# Altium footprint library FP-Connector.PcbLib: 32 footprints (part 2 of 2)
Each footprint in its own frame and in the unit in brackets; x right, y up, seen from the top. Pads: shape width x height; smd on the part's side, far side on the other; paste and mask are expansions set on the pad; w line width, h text height; cw(c..) or ccw(c..) is an arc to the next point about the centre after c.
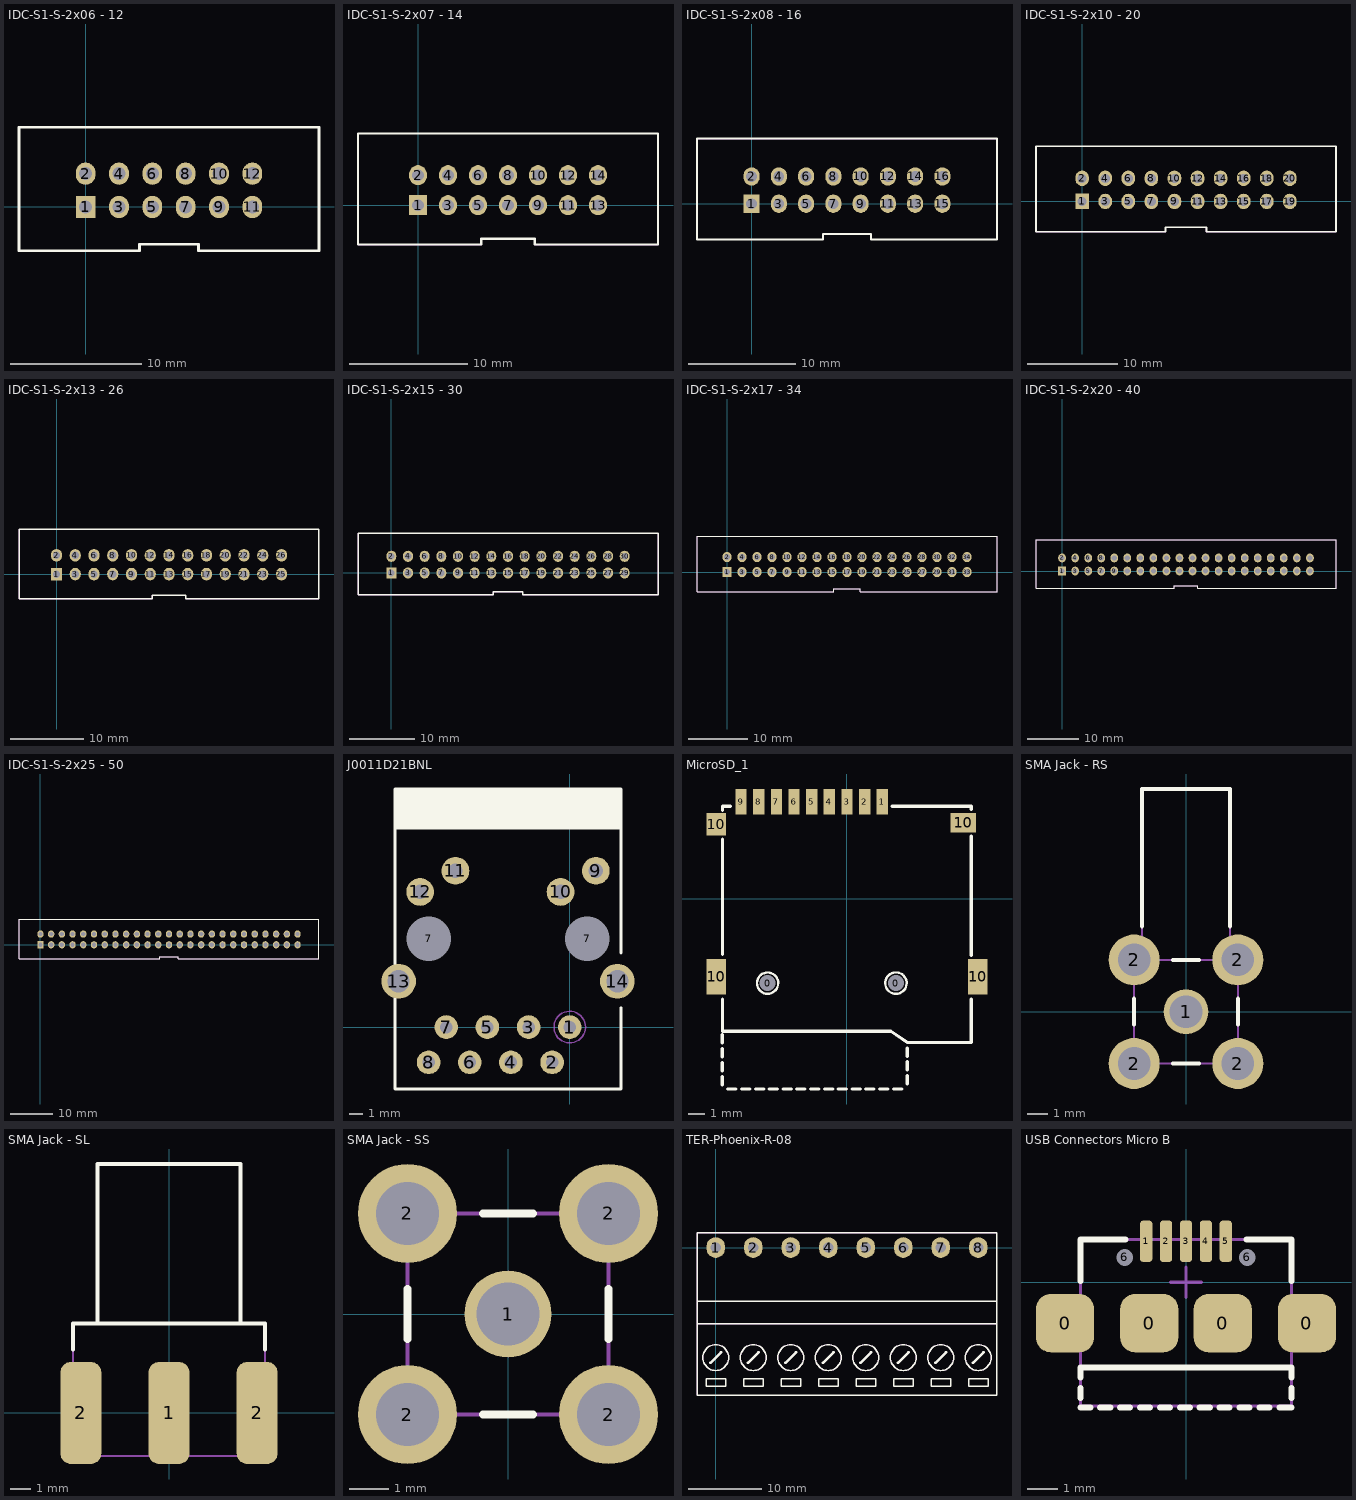
[diagram p1: the footprints below, top view; thin cyan lines are the x and y axes]

## IDC-S1-S-2x06 - 12 [mm]
pads (12):
  rect 1.5x1.7 hole 1: 1(0,0)
  oval 1.5x1.7 hole 1: 2(0,2.54) 3(2.54,0) 4(2.54,2.54) 5(5.08,0) 6(5.08,2.54) 7(7.62,0) 8(7.62,2.54) 9(10.16,0) 10(10.16,2.54) 11(12.7,0) 12(12.7,2.54)
Top Overlay:
  lines w0.2: -5.08,-3.33 4.1,-3.33 4.1,-2.83 8.6,-2.83 8.6,-3.33 17.78,-3.33 17.78,6.07 -5.08,6.07 -5.08,-3.33
Top Assembly:
  lines w0.1: -5.08,-3.33 4.1,-3.33 4.1,-2.83 8.6,-2.83 8.6,-3.33 17.78,-3.33 17.78,6.07 -5.08,6.07 -5.08,-3.33
  text "'.Designator'" at 0.254,0.762 h1.52
Top Courtyard:
  lines w0.1: -0.5,0 0.5,0 ; 0,-0.5 0,0.5

## IDC-S1-S-2x07 - 14 [mm]
pads (14):
  rect 1.5x1.7 hole 1: 1(0,0)
  oval 1.5x1.7 hole 1: 2(0,2.54) 3(2.54,0) 4(2.54,2.54) 5(5.08,0) 6(5.08,2.54) 7(7.62,0) 8(7.62,2.54) 9(10.16,0) 10(10.16,2.54) 11(12.7,0) 12(12.7,2.54) 13(15.24,0) 14(15.24,2.54)
Top Overlay:
  lines w0.2: -5.08,-3.33 -5.08,6.07 20.32,6.07 20.32,-3.33 9.87,-3.33 9.87,-2.83 5.37,-2.83 5.37,-3.33 -5.08,-3.33
Top Assembly:
  lines w0.1: -5.08,-3.33 -5.08,6.07 20.32,6.07 20.32,-3.33 9.87,-3.33 9.87,-2.83 5.37,-2.83 5.37,-3.33 -5.08,-3.33
  text "'.Designator'" at 0.254,0.762 h1.52
Top Courtyard:
  lines w0.1: -0.5,0 0.5,0 ; 0,-0.5 0,0.5

## IDC-S1-S-2x08 - 16 [mm]
pads (16):
  rect 1.5x1.7 hole 1: 1(0,0)
  oval 1.5x1.7 hole 1: 2(0,2.54) 3(2.54,0) 4(2.54,2.54) 5(5.08,0) 6(5.08,2.54) 7(7.62,0) 8(7.62,2.54) 9(10.16,0) 10(10.16,2.54) 11(12.7,0) 12(12.7,2.54) 13(15.24,0) 14(15.24,2.54) 15(17.78,0) 16(17.78,2.54)
Top Overlay:
  lines w0.2: -5.08,-3.33 -5.08,6.07 22.86,6.07 22.86,-3.33 11.14,-3.33 11.14,-2.83 6.64,-2.83 6.64,-3.33 -5.08,-3.33
Top Assembly:
  lines w0.1: -5.08,-3.33 -5.08,6.07 22.86,6.07 22.86,-3.33 11.14,-3.33 11.14,-2.83 6.64,-2.83 6.64,-3.33 -5.08,-3.33
  text "'.Designator'" at 0.254,0.762 h1.52
Top Courtyard:
  lines w0.1: -0.5,0 0.5,0 ; 0,-0.5 0,0.5

## IDC-S1-S-2x10 - 20 [mm]
pads (20):
  rect 1.5x1.7 hole 1: 1(0,0)
  oval 1.5x1.7 hole 1: 2(0,2.54) 3(2.54,0) 4(2.54,2.54) 5(5.08,0) 6(5.08,2.54) 7(7.62,0) 8(7.62,2.54) 9(10.16,0) 10(10.16,2.54) 11(12.7,0) 12(12.7,2.54) 13(15.24,0) 14(15.24,2.54) 15(17.78,0) 16(17.78,2.54) 17(20.32,0) 18(20.32,2.54) 19(22.86,0) 20(22.86,2.54)
Top Overlay:
  lines w0.2: -5.08,-3.33 9.18,-3.33 9.18,-2.83 13.68,-2.83 13.68,-3.33 27.94,-3.33 27.94,6.07 -5.08,6.07 -5.08,-3.33
Top Assembly:
  lines w0.1: -5.08,-3.33 9.18,-3.33 9.18,-2.83 13.68,-2.83 13.68,-3.33 27.94,-3.33 27.94,6.07 -5.08,6.07 -5.08,-3.33
  text "'.Designator'" at 0.254,0.762 h1.52
Top Courtyard:
  lines w0.1: -0.5,0 0.5,0 ; 0,-0.5 0,0.5
3D body "DS1013-20S (IDC-20MS CONNFLY).stp": height 9.05, standoff -3.55, extent -5.17,-3.08 28.03,5.82

## IDC-S1-S-2x13 - 26 [mm]
pads (26):
  rect 1.5x1.7 hole 1: 1(0,0)
  oval 1.5x1.7 hole 1: 2(0,2.54) 3(2.54,0) 4(2.54,2.54) 5(5.08,0) 6(5.08,2.54) 7(7.62,0) 8(7.62,2.54) 9(10.16,0) 10(10.16,2.54) 11(12.7,0) 12(12.7,2.54) 13(15.24,0) 14(15.24,2.54) 15(17.78,0) 16(17.78,2.54) 17(20.32,0) 18(20.32,2.54) 19(22.86,0) 20(22.86,2.54) 21(25.4,0) 22(25.4,2.54) 23(27.94,0) 24(27.94,2.54) 25(30.48,0) 26(30.48,2.54)
Top Overlay:
  lines w0.2: -5.08,-3.33 -5.08,6.07 35.56,6.07 35.56,-3.33 17.49,-3.33 17.49,-2.83 12.99,-2.83 12.99,-3.33 -5.08,-3.33
Top Assembly:
  lines w0.1: -5.08,-3.33 -5.08,6.07 35.56,6.07 35.56,-3.33 17.49,-3.33 17.49,-2.83 12.99,-2.83 12.99,-3.33 -5.08,-3.33
  text "'.Designator'" at 0.254,0.762 h1.52
Top Courtyard:
  lines w0.1: -0.5,0 0.5,0 ; 0,-0.5 0,0.5

## IDC-S1-S-2x15 - 30 [mm]
pads (30):
  rect 1.5x1.7 hole 1: 1(0,0)
  oval 1.5x1.7 hole 1: 2(0,2.54) 3(2.54,0) 4(2.54,2.54) 5(5.08,0) 6(5.08,2.54) 7(7.62,0) 8(7.62,2.54) 9(10.16,0) 10(10.16,2.54) 11(12.7,0) 12(12.7,2.54) 13(15.24,0) 14(15.24,2.54) 15(17.78,0) 16(17.78,2.54) 17(20.32,0) 18(20.32,2.54) 19(22.86,0) 20(22.86,2.54) 21(25.4,0) 22(25.4,2.54) 23(27.94,0) 24(27.94,2.54) 25(30.48,0) 26(30.48,2.54) 27(33.02,0) 28(33.02,2.54) 29(35.56,0) 30(35.56,2.54)
Top Overlay:
  lines w0.2: -5.08,-3.33 -5.08,6.07 40.64,6.07 40.64,-3.33 20.03,-3.33 20.03,-2.83 15.53,-2.83 15.53,-3.33 -5.08,-3.33
Top Assembly:
  lines w0.1: -5.08,-3.33 -5.08,6.07 40.64,6.07 40.64,-3.33 20.03,-3.33 20.03,-2.83 15.53,-2.83 15.53,-3.33 -5.08,-3.33
  text "'.Designator'" at 0.254,0.762 h1.52
Top Courtyard:
  lines w0.1: -0.5,0 0.5,0 ; 0,-0.5 0,0.5

## IDC-S1-S-2x17 - 34 [mm]
pads (34):
  rect 1.5x1.7 hole 1: 1(0,0)
  oval 1.5x1.7 hole 1: 2(0,2.54) 3(2.54,0) 4(2.54,2.54) 5(5.08,0) 6(5.08,2.54) 7(7.62,0) 8(7.62,2.54) 9(10.16,0) 10(10.16,2.54) 11(12.7,0) 12(12.7,2.54) 13(15.24,0) 14(15.24,2.54) 15(17.78,0) 16(17.78,2.54) 17(20.32,0) 18(20.32,2.54) 19(22.86,0) 20(22.86,2.54) 21(25.4,0) 22(25.4,2.54) 23(27.94,0) 24(27.94,2.54) 25(30.48,0) 26(30.48,2.54) 27(33.02,0) 28(33.02,2.54) 29(35.56,0) 30(35.56,2.54) 31(38.1,0) 32(38.1,2.54) 33(40.64,0) 34(40.64,2.54)
Top Overlay:
  lines w0.2: -5.08,-3.33 18.07,-3.33 18.07,-2.83 22.57,-2.83 22.57,-3.33 45.72,-3.33 45.72,6.07 -5.08,6.07 -5.08,-3.33
Top Assembly:
  lines w0.1: -5.08,-3.33 18.07,-3.33 18.07,-2.83 22.57,-2.83 22.57,-3.33 45.72,-3.33 45.72,6.07 -5.08,6.07 -5.08,-3.33
  text "'.Designator'" at 0.254,0.762 h1.52
Top Courtyard:
  lines w0.1: -0.5,0 0.5,0 ; 0,-0.5 0,0.5

## IDC-S1-S-2x20 - 40 [mm]
pads (40):
  rect 1.5x1.7 hole 1: 1(0,0)
  oval 1.5x1.7 hole 1: 2(0,2.54) 3(2.54,0) 4(2.54,2.54) 5(5.08,0) 6(5.08,2.54) 7(7.62,0) 8(7.62,2.54) 9(10.16,0) 10(10.16,2.54) 11(12.7,0) 12(12.7,2.54) 13(15.24,0) 14(15.24,2.54) 15(17.78,0) 16(17.78,2.54) 17(20.32,0) 18(20.32,2.54) 19(22.86,0) 20(22.86,2.54) 21(25.4,0) 22(25.4,2.54) 23(27.94,0) 24(27.94,2.54) 25(30.48,0) 26(30.48,2.54) 27(33.02,0) 28(33.02,2.54) 29(35.56,0) 30(35.56,2.54) 31(38.1,0) 32(38.1,2.54) 33(40.64,0) 34(40.64,2.54) 35(43.18,0) 36(43.18,2.54) 37(45.72,0) 38(45.72,2.54) 39(48.26,0) 40(48.26,2.54)
Top Overlay:
  lines w0.2: -5.08,-3.33 21.88,-3.33 21.88,-2.83 26.38,-2.83 26.38,-3.33 53.34,-3.33 53.34,6.07 -5.08,6.07 -5.08,-3.33
Top Assembly:
  lines w0.1: -5.08,-3.33 21.88,-3.33 21.88,-2.83 26.38,-2.83 26.38,-3.33 53.34,-3.33 53.34,6.07 -5.08,6.07 -5.08,-3.33
  text "'.Designator'" at 0.254,0.762 h1.52
Top Courtyard:
  lines w0.1: -0.5,0 0.5,0 ; 0,-0.5 0,0.5

## IDC-S1-S-2x25 - 50 [mm]
pads (50):
  rect 1.5x1.7 hole 1: 1(0,0)
  oval 1.5x1.7 hole 1: 2(0,2.54) 3(2.54,0) 4(2.54,2.54) 5(5.08,0) 6(5.08,2.54) 7(7.62,0) 8(7.62,2.54) 9(10.16,0) 10(10.16,2.54) 11(12.7,0) 12(12.7,2.54) 13(15.24,0) 14(15.24,2.54) 15(17.78,0) 16(17.78,2.54) 17(20.32,0) 18(20.32,2.54) 19(22.86,0) 20(22.86,2.54) 21(25.4,0) 22(25.4,2.54) 23(27.94,0) 24(27.94,2.54) 25(30.48,0) 26(30.48,2.54) 27(33.02,0) 28(33.02,2.54) 29(35.56,0) 30(35.56,2.54) 31(38.1,0) 32(38.1,2.54) 33(40.64,0) 34(40.64,2.54) 35(43.18,0) 36(43.18,2.54) 37(45.72,0) 38(45.72,2.54) 39(48.26,0) 40(48.26,2.54) 41(50.8,0) 42(50.8,2.54) 43(53.34,0) 44(53.34,2.54) 45(55.88,0) 46(55.88,2.54) 47(58.42,0) 48(58.42,2.54) 49(60.96,0) 50(60.96,2.54)
Top Overlay:
  lines w0.2: -5.08,-3.33 28.23,-3.33 28.23,-2.83 32.73,-2.83 32.73,-3.33 66.04,-3.33 66.04,6.07 -5.08,6.07 -5.08,-3.33
Top Assembly:
  lines w0.1: -5.08,-3.33 28.23,-3.33 28.23,-2.83 32.73,-2.83 32.73,-3.33 66.04,-3.33 66.04,6.07 -5.08,6.07 -5.08,-3.33
  text "'.Designator'" at 0.254,0.762 h1.52
Top Courtyard:
  lines w0.1: -0.5,0 0.5,0 ; 0,-0.5 0,0.5

## J0011D21BNL [mm] "Ethernet Connector with EMI Fingers"
height 0.014
pads (16):
  round 1.7 hole 0.9: 1(0,0) 2(-1.27,-2.54) 3(-2.963,0) 4(-4.233,-2.54) 5(-5.927,0) 6(-7.197,-2.54) 7(-8.89,0) 8(-10.16,-2.54)
  rrect50% 2x1 hole 3.2: 7(-10.16,6.35) 7(1.27,6.35)
  round 2 hole 1.05: 9(1.88,11.25) 10(-0.66,9.73) 11(-8.23,11.25) 12(-10.77,9.73)
  round 2.5 hole 1.6: 13(-12.32,3.3) 14(3.43,3.3)
Top Overlay:
  rectangle: -12.575,14.22 3.685,17.14
  lines w0.2: -12.575,1.395 -12.575,-4.46 ; -12.575,5.336 -12.575,17.14 ; 3.685,1.395 3.685,-4.46 -12.575,-4.46 ; 3.685,5.336 3.685,17.14 -12.575,17.14 ; -12.575,-4.46 -12.575,17.14
Top Assembly:
  circle w0.1: c0,0 r1.136
  lines w0.1: -12.575,1.395 -12.575,-4.46 3.685,-4.46 3.685,1.395 ; -12.575,5.336 -12.575,17.14 3.685,17.14 3.685,5.336
  text "'.Designator'" at -7.239,3.683 h1.52
3D body "R80707.stp": height 14.86, standoff -4.25, extent -13.38,-4.904 4.49,17.584

## MicroSD_1 [mm] "altium designer (M.Hariri)"
pads (15):
  round 0.8 hole 1: 0(-4.95,-5.25) 0(3.05,-5.25)
  rect 0.7x1.6 smd: 1(2.2,6.05) 2(1.1,6.05) 3(0,6.05) 4(-1.1,6.05) 5(-2.2,6.05) 6(-3.3,6.05) 7(-4.4,6.05) 8(-5.5,6.05) 9(-6.6,6.05)
  rect 1.2x2.2 smd: 10(-8.15,-4.85) 10(8.15,-4.85)
  rect 1.2x1.4 smd: 10(-8.15,4.65)
  rect 1.6x1.2 smd: 10(7.25,4.75)
Top Overlay:
  lines w0.15: -4.297,-5.141 ccw(c-4.95,-5.25) -4.295,-5.151 ; 3.714,-5.187 ccw(c3.05,-5.25) 3.717,-5.261
  lines w0.2: -7.77,-11.58 -7.77,-11.06 ; -7.77,-10.72 -7.77,-10.2 ; -7.77,-9.86 -7.77,-9.34 ; -7.77,-8.98 -7.77,-8.46 ; -7.76,-6.26 -7.76,-8.25 2.75,-8.25 3.76,-8.95 7.74,-8.95 7.74,-6.25 ; -7.76,-3.45 -7.76,3.72 ; -7.76,5.52 -7.76,5.77 -7.28,5.77 ; -7.43,-11.848 -6.91,-11.848 ; -6.57,-11.848 -6.05,-11.848 ; -5.71,-11.848 -5.19,-11.848 ; -4.85,-11.848 -4.33,-11.848 ; -3.99,-11.848 -3.47,-11.848 ; -3.13,-11.848 -2.61,-11.848 ; -2.27,-11.848 -1.75,-11.848 ; -1.41,-11.848 -0.89,-11.848 ; -0.55,-11.848 -0.03,-11.848 ; 0.31,-11.848 0.83,-11.848 ; 1.17,-11.848 1.69,-11.848 ; 2.03,-11.848 2.55,-11.848 ; 2.82,5.77 7.74,5.77 7.74,5.59 ; 2.89,-11.848 3.41,-11.848 ; 3.76,-11.53 3.76,-11.01 ; 3.76,-10.67 3.76,-10.15 ; 3.76,-9.81 3.76,-9.29 ; 7.74,-3.53 7.74,3.9
Top Assembly:
  lines w0.1: -7.77,-11.58 -7.77,-11.06 ; -7.77,-10.72 -7.77,-10.2 ; -7.77,-9.86 -7.77,-9.34 ; -7.77,-8.98 -7.77,-8.46 ; -7.76,-6.26 -7.76,-8.25 2.75,-8.25 3.76,-8.95 7.74,-8.95 7.74,-6.25 ; -7.76,-3.45 -7.76,3.72 ; -7.76,5.52 -7.76,5.77 -7.28,5.77 ; -7.43,-11.848 -6.91,-11.848 ; -6.57,-11.848 -6.05,-11.848 ; -5.71,-11.848 -5.19,-11.848 ; -4.85,-11.848 -4.33,-11.848 ; -3.99,-11.848 -3.47,-11.848 ; -3.13,-11.848 -2.61,-11.848 ; -2.27,-11.848 -1.75,-11.848 ; -1.41,-11.848 -0.89,-11.848 ; -0.55,-11.848 -0.03,-11.848 ; 0.31,-11.848 0.83,-11.848 ; 1.17,-11.848 1.69,-11.848 ; 2.03,-11.848 2.55,-11.848 ; 2.82,5.77 7.74,5.77 7.74,5.59 ; 2.89,-11.848 3.41,-11.848 ; 3.76,-11.53 3.76,-11.01 ; 3.76,-10.67 3.76,-10.15 ; 3.76,-9.81 3.76,-9.29 ; 7.74,-3.53 7.74,3.9
  text "'.Designator'" at 0.271,0.823 h1.52
3D body "TF-01A.step": height 2.1, standoff -0.3, extent -8,-11.878 8.1,5.943

## SMA Jack - RS [mm]
pads (5):
  round 2.2 hole 1.6: 1(0,0)
  round 2.5 hole 1.6: 2(-2.54,-2.54) 2(-2.54,2.54) 2(2.54,-2.54) 2(2.54,2.54)
Top Overlay:
  lines w0.2: -2.54,-0.635 -2.54,0.635 ; -2.159,4.191 -2.159,10.922 2.159,10.922 2.159,4.191 ; -0.635,-2.54 0.635,-2.54 ; -0.635,2.54 0.635,2.54 ; 2.54,-0.635 2.54,0.635
Top Assembly:
  lines w0.1: -2.159,2.54 -2.159,10.922 2.159,10.922 2.159,2.54 ; -2.54,-2.54 2.54,-2.54 2.54,2.54 -2.54,2.54 -2.54,-2.54
  text "'.Designator'" at 0.254,0.762 h1.52
Top Courtyard:
  lines w0.1: -0.5,0 0.5,0 ; 0,-0.5 0,0.5
3D body "SMA-angled.STEP": height 9.95, standoff -3.85, extent -3.5,-3.5 3.5,11

## SMA Jack - SL [mm]
pads (3):
  rrect50% 2x5 smd: 1(0,0)
  rrect50% 2x5 / inner round 0 / far side rrect50% 2x5 all layers, no hole: 2(-4.318,0) 2(4.318,0)
Top Overlay:
  lines w0.2: -4.713,3.113 -4.713,4.391 4.713,4.391 4.713,3.113 ; -3.5,4.4 -3.5,12.2 3.5,12.2 3.5,4.4
Top Assembly:
  lines w0.1: -3.5,4.4 -3.5,12.2 3.5,12.2 3.5,4.4 ; -4.713,-2.109 4.713,-2.109 4.713,4.391 -4.713,4.391 -4.713,-2.109
  text "'.Designator'" at 0.254,0.762 h1.52
Top Courtyard:
  lines w0.1: -0.5,0 0.5,0 ; 0,-0.5 0,0.5
3D body "SMA_Launch_RibbedFlange.STEP": height 4.48, standoff -3.44, extent -4.763,-2.159 4.763,12.065

## SMA Jack - SS [mm]
pads (5):
  round 2.2 hole 1.6: 1(0,0)
  round 2.5 hole 1.6: 2(-2.54,-2.54) 2(-2.54,2.54) 2(2.54,-2.54) 2(2.54,2.54)
Top Overlay:
  lines w0.2: -2.54,-0.635 -2.54,0.635 ; -0.635,-2.54 0.635,-2.54 ; -0.635,2.54 0.635,2.54 ; 2.54,-0.635 2.54,0.635
Top Assembly:
  lines w0.1: -2.54,-2.54 2.54,-2.54 2.54,2.54 -2.54,2.54 -2.54,-2.54
  text "'.Designator'" at 0.254,0.762 h1.52
Top Courtyard:
  lines w0.1: -0.5,0 0.5,0 ; 0,-0.5 0,0.5
3D body "Molex - 73391-0060.STEP": height 9, standoff -3.55, extent -3.04,-3.04 3.04,3.04

## TER-Phoenix-R-08 [mm]
pads (8):
  oval 2.5x2.8 hole 1.4: 1(0,0) 2(5.08,0) 3(10.16,0) 4(15.24,0) 5(20.32,0) 6(25.4,0) 7(30.48,0) 8(35.56,0)
Top Overlay:
  circle w0.2: c0,-14.905 r1.75
  circle w0.2: c35.56,-14.905 r1.75
  circle w0.2: c30.48,-14.905 r1.75
  circle w0.2: c25.4,-14.905 r1.75
  circle w0.2: c20.32,-14.905 r1.75
  circle w0.2: c15.24,-14.905 r1.75
  circle w0.2: c10.16,-14.905 r1.75
  circle w0.2: c5.08,-14.905 r1.75
  lines w0.2: -2.54,-10.3 38.1,-10.3 ; -2.54,-7.3 38.1,-7.3 ; -2.54,-20 -2.54,2 38.1,2 38.1,-20 -2.54,-20 ; -1.27,-18.78 1.33,-18.78 1.33,-17.78 -1.27,-17.78 -1.27,-18.78 ; 3.81,-18.78 6.41,-18.78 6.41,-17.78 3.81,-17.78 3.81,-18.78 ; 8.89,-18.78 11.49,-18.78 11.49,-17.78 8.89,-17.78 8.89,-18.78 ; 13.97,-18.78 16.57,-18.78 16.57,-17.78 13.97,-17.78 13.97,-18.78 ; 19.05,-18.78 21.65,-18.78 21.65,-17.78 19.05,-17.78 19.05,-18.78 ; 24.13,-18.78 26.73,-18.78 26.73,-17.78 24.13,-17.78 24.13,-18.78 ; 29.21,-18.78 31.81,-18.78 31.81,-17.78 29.21,-17.78 29.21,-18.78 ; 34.29,-18.78 36.89,-18.78 36.89,-17.78 34.29,-17.78 34.29,-18.78
  lines w0.35: -0.707,-15.612 0.707,-14.198 ; 4.373,-15.612 5.787,-14.198 ; 9.453,-15.612 10.867,-14.198 ; 14.533,-15.612 15.947,-14.198 ; 19.613,-15.612 21.027,-14.198 ; 24.693,-15.612 26.107,-14.198 ; 29.773,-15.612 31.187,-14.198 ; 34.853,-15.612 36.267,-14.198
Top Assembly:
  circle w0.1: c5.08,-14.905 r1.75
  circle w0.1: c10.16,-14.905 r1.75
  circle w0.1: c20.32,-14.905 r1.75
  circle w0.1: c25.4,-14.905 r1.75
  circle w0.1: c35.56,-14.905 r1.75
  circle w0.1: c0,-14.905 r1.75
  circle w0.1: c30.48,-14.905 r1.75
  circle w0.1: c15.24,-14.905 r1.75
  lines w0.1: -2.54,-10.3 38.1,-10.3 ; -2.54,-7.3 38.1,-7.3 ; -0.707,-15.612 0.707,-14.198 ; 4.373,-15.612 5.787,-14.198 ; 9.453,-15.612 10.867,-14.198 ; 14.533,-15.612 15.947,-14.198 ; 19.613,-15.612 21.027,-14.198 ; 24.693,-15.612 26.107,-14.198 ; 29.773,-15.612 31.187,-14.198 ; 34.853,-15.612 36.267,-14.198 ; -2.54,-20 -2.54,2 38.1,2 38.1,-20 -2.54,-20
  text "'.Designator'" at 0.254,-4.318 h1.52
Top Courtyard:
  lines w0.1: -0.5,0 0.5,0 ; 0,-0.5 0,0.5
3D body "Phoenix dual STEP - 8.STEP": height 15.02, standoff -3.63, extent -2.54,-19.95 38.1,1.95

## USB Connectors Micro B [mm]
pads (11):
  rrect50% 1.9x1.9 smd: 0(-3.95,-1.337) 0(-1.2,-1.337) 0(1.2,-1.337) 0(3.95,-1.337)
  rrect50% 0.4x1.35 smd: 1(-1.3,1.338) 2(-0.65,1.338) 3(0,1.338) 4(0.65,1.338) 5(1.3,1.338)
  round 0.5 hole 0.55: 6(-2,0.813) 6(2,0.813)
Top Overlay:
  lines w0.2: -3.45,-4.088 -3.125,-4.088 ; -3.45,-3.783 -3.45,-3.458 ; -3.45,-3.112 -3.45,-2.787 3.45,-2.787 3.45,-3.112 ; -3.45,0.039 -3.45,1.397 -1.979,1.397 ; -2.8,-4.088 -2.475,-4.088 ; -2.15,-4.088 -1.825,-4.088 ; -1.5,-4.088 -1.175,-4.088 ; -0.85,-4.088 -0.525,-4.088 ; -0.2,-4.088 0.125,-4.088 ; 0.45,-4.088 0.775,-4.088 ; 1.1,-4.088 1.425,-4.088 ; 1.75,-4.088 2.075,-4.088 ; 1.979,1.397 3.45,1.397 3.45,0.039 ; 2.4,-4.088 2.725,-4.088 ; 3.05,-4.088 3.45,-4.088 ; 3.45,-3.783 3.45,-3.458
Top Assembly:
  lines w0.1: -3.45,-2.794 3.45,-2.794 ; -3.45,-4.043 3.45,-4.043 3.45,1.397 -3.45,1.397 -3.45,-4.043
  text "'.Designator'" at 0.254,0.762 h1.52
Top Courtyard:
  lines w0.1: -0.5,0 0.5,0 ; 0,-0.5 0,0.5
3D body "molex_0473460001.STEP": height 2.73, standoff -0.04, extent -3.95,-4.053 4.031,1.378